# EAGLE library part BALF-SPI2-02D3 (library BALF-SPI2-02D3)
50 nominal input / conjugate match balun to S2-LP, 433 - 470 MHz with integrated harmonic filter Source: Datasheet <https://www.st.com/resource/en/datasheet/balf-spi2-02d3.pdf>
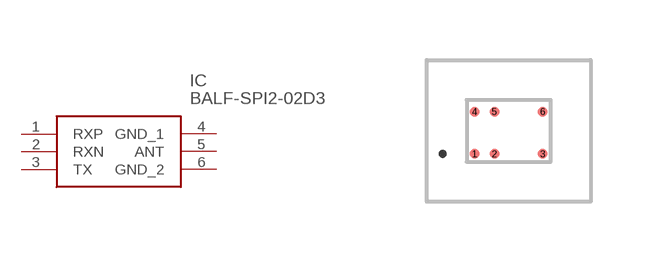
[diagram p0: symbol with the pads of BALFSPI202D3; footprint BALFSPI202D3]

Designator prefix IC

## BALF-SPI2-02D3 (Description: 50 nominal input / conjugate match balun to S2-LP, 433 - 470 MHz with integrated harmonic filter; Height: 0.68mm; Manufacturer_Name: STMicroelectronics; Manufacturer_Part_Number: BALF-SPI2-02D3; Mouser_Part_Number: 511-BALF-SPI2-02D3; Mouser_Price-Stock: https://www.mouser.co.uk/ProductDetail/STMicroelectronics/BALF-SPI2-02D3?qs=MLItCLRbWsy6hxyo9x0oHA%3D%3D)  [BALFSPI202D3]
1  RXP
2  RXN
3  TX
4  GND_1
5  ANT
6  GND_2

## Footprint BALFSPI202D3 (pad centres in mm)
Flip-Chip
smd 0.255 x 0.255: 1 -0.855,-0.58; 2 -0.355,-0.58; 3 0.855,-0.58; 4 -0.855,0.48; 5 -0.355,0.48; 6 0.855,0.48